# EAGLE library part PC1719028 (library digikey)
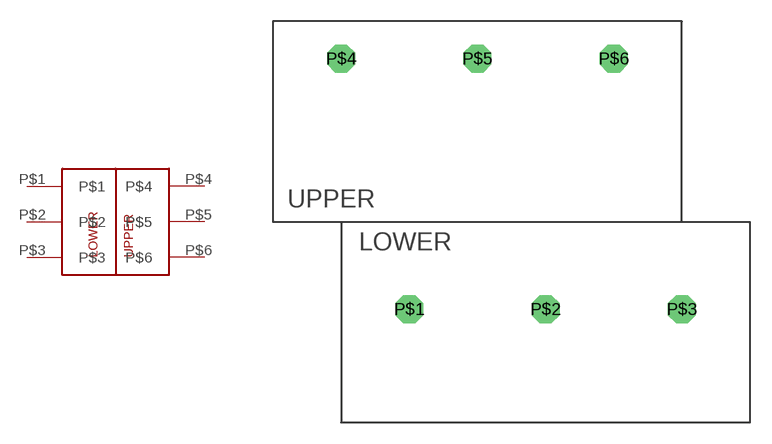
[diagram p1: symbol with the pads of PC-MKKDS5/3-9.5; footprint PC-MKKDS5/3-9.5]

Designator prefix -

## PC1719028  [PC-MKKDS5/3-9.5]
P$1  P$1
P$2  P$2
P$3  P$3
P$4  P$4
P$5  P$5
P$6  P$6

## Footprint PC-MKKDS5/3-9.5 (pad centres in mm)
drill 1.3 octagon: P$1 9.52,7.9; P$2 19.04,7.9; P$3 28.56,7.9; P$4 4.76,25.4; P$5 14.28,25.4; P$6 23.8,25.4